# Altium integrated library Diode-THP_V2.IntLib: 130 symbols
Pins are listed as number, name and electrical type; pins without a type are passive.

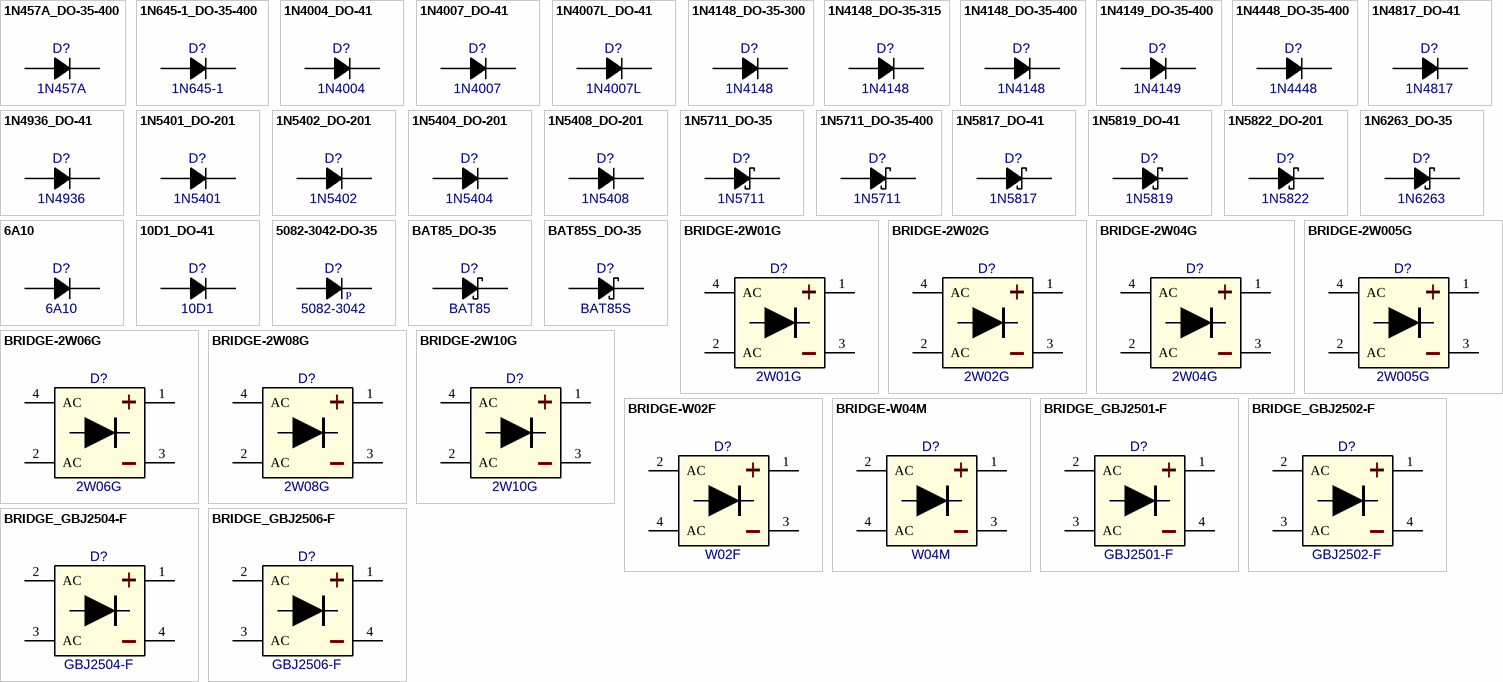
[diagram p0: symbols 1N457A_DO-35-400 to BRIDGE_GBJ2506-F]

## 1N457A_DO-35-400
designator D?, comment 1N457A
Diode Rectifier 200mA 70V; Manufacturer: Fairchild; Package: DO-35-400; EDM-PN: *; Text2: *; Text1: *; Value: 1N457A; Part Number: 1N457A
footprint DO-35-400 (DO-35 4.25x1.85mm)
pins: 1 C, 2 A

## 1N645-1_DO-35-400
designator D?, comment 1N645-1
Diode Rectifier 255mA 400V; Manufacturer: Microsemi; Package: DO-35-400; EDM-PN: *; Text2: *; Text1: *; Value: 1N645-1; Part Number: 1N645-1
footprint DO-35-400 (DO-35 4.25x1.85mm)
pins: 1 C, 2 A

## 1N4004_DO-41
designator D?, comment 1N4004
Diode Rectifier 1.0A; Manufacturer: Various; Package: DO-41; EDM-PN: *; Text2: *; Text1: *; Value: 1N4004; Part Number: 1N4004
footprint DO-41 (Diode DO-41 5.21x2.72mm)
pins: 1 C, 2 A

## 1N4007_DO-41
designator D?, comment 1N4007
Diode Rectifier 1000V 1.0A; Manufacturer: Various; EDM-PN: DIO16; Package: DO-41; Text2: *; Text1: *; Value: 1N4007; Part Number: 1N4007
footprint DO-41 (Diode DO-41 5.21x2.72mm)
pins: 1 C, 2 A

## 1N4007L_DO-41
designator D?, comment 1N4007L
Diode Rectifier 1000V 1.0A; Manufacturer: Various; Package: DO-41; EDM-PN: *; Text2: *; Text1: *; Value: 1N4007L; Part Number: 1N4007L
footprint DO-41 (Diode DO-41 5.21x2.72mm)
pins: 1 C, 2 A

## 1N4148_DO-35-300
designator D?, comment 1N4148
Diode Rectifier 100V 200mA; Manufacturer: Various; EDM-PN: DIO32; Package: DO-35-300; Text2: *; Text1: *; Value: 1N4148; Part Number: 1N4148
footprint DO-35-300 (DO-35 4.25x1.85mm)
pins: 1 C, 2 A

## 1N4148_DO-35-315
designator D?, comment 1N4148
Diode Rectifier 100V 200mA; Manufacturer: Various; EDM-PN: DIO32; Package: DO-35-315; Text2: *; Text1: *; Value: 1N4148; Part Number: 1N4148
footprint DO-35-315 (DO-35 4.25x1.85mm)
pins: 1 C, 2 A

## 1N4148_DO-35-400
designator D?, comment 1N4148
Diode Rectifier 100V 200mA; Manufacturer: Various; EDM-PN: DIO32; Package: DO-35-400; Text2: *; Text1: *; Value: 1N4148; Part Number: 1N4148
footprint DO-35-400 (DO-35 4.25x1.85mm)
pins: 1 C, 2 A

## 1N4149_DO-35-400
designator D?, comment 1N4149
Diode Rectifier 100V 500mA; Manufacturer: Various; Package: DO-35-400; EDM-PN: *; Text2: *; Text1: *; Value: 1N4149; Part Number: 1N4149
footprint DO-35-400 (DO-35 4.25x1.85mm)
pins: 1 C, 2 A

## 1N4448_DO-35-400
designator D?, comment 1N4448
Diode Rectifier 450mA 100V; Manufacturer: Various; Package: DO-35-400; EDM-PN: *; Text2: *; Text1: *; Value: 1N4448; Part Number: 1N4448
footprint DO-35-400 (DO-35 4.25x1.85mm)
pins: 1 C, 2 A

## 1N4817_DO-41
designator D?, comment 1N4817
Diode Silicon Rectifier 1.5A 100V; Manufacturer: IRF; Package: DO-41; EDM-PN: *; Text2: *; Text1: *; Value: 1N4817; Part Number: 1N4817
footprint DO-41 (Diode DO-41 5.21x2.72mm)
pins: 1 C, 2 A

## 1N4936_DO-41
designator D?, comment 1N4936
Diode Rectifier 1.0A 40V; Manufacturer: On Semi; Package: DO-41; EDM-PN: *; Text2: *; Text1: *; Value: 1N4936; Part Number: 1N4936
footprint DO-41 (Diode DO-41 5.21x2.72mm)
pins: 1 C, 2 A

## 1N5401_DO-201
designator D?, comment 1N5401
Diode Rectifier 3.0A 100V; Manufacturer: Various; Value: 1N5401-DO-201; Package: DO-201AD; EDM-PN: *; Text2: *; Text1: *; Part Number: 1N5401
footprint DO-201AD (DO-201AD 9.5x5.3mm)
pins: 1 C, 2 A

## 1N5402_DO-201
designator D?, comment 1N5402
Diode Rectifier 3.0A 200V; Manufacturer: Various; Value: 1N5402-DO-201; Package: DO-201AD; EDM-PN: *; Text2: *; Text1: *; Part Number: 1N5402
footprint DO-201AD (DO-201AD 9.5x5.3mm)
pins: 1 C, 2 A

## 1N5404_DO-201
designator D?, comment 1N5404
Diode Rectifier 3.0A 400V; Manufacturer: Various; Package: DO-201AD; EDM-PN: *; Text2: *; Text1: *; Value: 1N5404; Part Number: 1N5404
footprint DO-201AD (DO-201AD 9.5x5.3mm)
pins: 1 C, 2 A

## 1N5408_DO-201
designator D?, comment 1N5408
Diode Rectifier 3.0A 1000V; Manufacturer: Various; Value: 1N5408-DO-201; Package: DO-201AD; EDM-PN: *; Text2: *; Text1: *; Part Number: 1N5408
footprint DO-201AD (DO-201AD 9.5x5.3mm)
pins: 1 C, 2 A

## 1N5711_DO-35
designator D?, comment 1N5711
Diode Schottky RF 70V 15mA; Manufacturer: Various; Package: DO-35-300; EDM-PN: *; Text2: *; Text1: *; Value: 1N5711; Part Number: 1N5711
footprint DO-35-300 (DO-35 4.25x1.85mm)
pins: 1 C, 2 A

## 1N5711_DO-35-400
designator D?, comment 1N5711
Diode Schottky RF 70V 15mA; Manufacturer: Various; Package: DO-35-400; EDM-PN: *; Text2: *; Text1: *; Value: 1N5711; Part Number: 1N5711
footprint DO-35-400 (DO-35 4.25x1.85mm)
pins: 1 C, 2 A

## 1N5817_DO-41
designator D?, comment 1N5817
Diode Schottky 20V 1A; Manufacturer: Various; Package: DO-41; EDM-PN: *; Text2: *; Text1: *; Value: 1N5817; Part Number: 1N5817
footprint DO-41 (Diode DO-41 5.21x2.72mm)
pins: 1 C, 2 A

## 1N5819_DO-41
designator D?, comment 1N5819
Diode Schottky 40V 1A; Manufacturer: Various; Package: DO-41; EDM-PN: *; Text2: *; Text1: *; Value: 1N5819; Part Number: 1N5819
footprint DO-41 (Diode DO-41 5.21x2.72mm)
pins: 1 C, 2 A

## 1N5822_DO-201
designator D?, comment 1N5822
Diode Schottky 3.0A 40V; Manufacturer: Various; Package: DO-201AD; EDM-PN: *; Text2: *; Text1: *; Value: 1N5822; Part Number: 1N5822
footprint DO-201AD (DO-201AD 9.5x5.3mm)
pins: 1 C, 2 A

## 1N6263_DO-35
designator D?, comment 1N6263
Diode Schottky 15mA 60V; Manufacturer: Various; Package: DO-35-400; EDM-PN: *; Text2: *; Text1: *; Value: 1N6263; Part Number: 1N6263
footprint DO-35-400 (DO-35 4.25x1.85mm)
pins: 1 C, 2 A

## 6A10
designator D?
Diode Rectifier 6.0A 1000V; Manufacturer: FMS; Package: DIODE-THP-9x9; EDM-PN: *; Text2: *; Text1: *; Value: 6A10; Part Number: 6A10
footprint DIODE-THP-9x9 (Diode THP 9.0x9.0mm)
pins: 1 C, 2 A

## 10D1_DO-41
designator D?, comment 10D1
Diode Silicon Rectifier 1.5A 100V; Manufacturer: IRF; Package: DO-41; EDM-PN: *; Text2: *; Text1: *; Value: 10D1; Part Number: 10D1
footprint DO-41 (Diode DO-41 5.21x2.72mm)
pins: 1 C, 2 A

## 5082-3042-DO-35
designator D?, comment 5082-3042
Diode Glass PIN 70V 100mA; Manufacturer: Advanced Semiconductor; Package: DO-35-400; EDM-PN: *; Text2: *; Text1: *; Value: 5082-3042; Part Number: 5082-3042
footprint DO-35-400 (DO-35 4.25x1.85mm)
pins: 1 C, 2 A
text: P

## BAT85_DO-35
designator D?, comment BAT85
Diode Schottky 200mA 30V; Manufacturer: Nexperia; Package: DO-35-400; EDM-PN: *; Text2: *; Text1: *; Value: BAT85; Part Number: BAT85
footprint DO-35-400 (DO-35 4.25x1.85mm)
pins: 1 C, 2 A

## BAT85S_DO-35
designator D?, comment BAT85S
Diode Schottky 200mA 30V; Manufacturer: Vishay; Package: DO-35-400; EDM-PN: *; Text2: *; Text1: *; Value: BAT85S; Part Number: BAT85S
footprint DO-35-400 (DO-35 4.25x1.85mm)
pins: 1 C, 2 A

## BRIDGE-2W01G
designator D?  Part Number: 2W01G  (hidden comment: BRIDGE-2W01G)
Bridge Rectifier 2Amp 100V; Manufacturer: Vishay; Value: 2W01G; Package: 2W005G; EDM-PN: *; Text2: *; Text1: *
footprint 2W01 (2W01 9.9x9.9mm)
pins: 1 +, 2 AC, 3 -, 4 AC

## BRIDGE-2W02G
designator D?  Part Number: 2W02G  (hidden comment: BRIDGE-2W02G)
Bridge Rectifier 2Amp 200V; Manufacturer: Vishay; Value: 2W02G; Package: 2W005G; EDM-PN: *; Text2: *; Text1: *
footprint 2W02 (2W02 9.9x9.9mm)
pins: 1 +, 2 AC, 3 -, 4 AC

## BRIDGE-2W04G
designator D?  Part Number: 2W04G  (hidden comment: BRIDGE-2W04G)
Bridge Rectifier 2Amp 400V; Manufacturer: Vishay; Value: 2W04G; Package: 2W005G; EDM-PN: *; Text2: *; Text1: *
footprint 2W04 (2W04 9.9x9.9mm)
pins: 1 +, 2 AC, 3 -, 4 AC

## BRIDGE-2W005G
designator D?  Part Number: 2W005G  (hidden comment: BRIDGE-2W005G)
Bridge Rectifier 2Amp 50V; Manufacturer: Vishay; Value: 2W005G; Package: 2W005G; EDM-PN: *; Text2: *; Text1: *
footprint 2W005 (2W005 9.9x9.9mm)
pins: 1 +, 2 AC, 3 -, 4 AC

## BRIDGE-2W06G
designator D?  Part Number: 2W06G  (hidden comment: BRIDGE-2W06G)
Bridge Rectifier 2Amp 600V; Manufacturer: Vishay; Value: 2W06G; Package: 2W005G; EDM-PN: *; Text2: *; Text1: *
footprint 2W06 (2W06 9.9x9.9mm)
pins: 1 +, 2 AC, 3 -, 4 AC

## BRIDGE-2W08G
designator D?  Part Number: 2W08G  (hidden comment: BRIDGE-2W08G)
Bridge Rectifier 2Amp 800V; Manufacturer: Vishay; Value: 2W08G; Package: 2W005G; EDM-PN: *; Text2: *; Text1: *
footprint 2W08 (2W08 9.9x9.9mm)
pins: 1 +, 2 AC, 3 -, 4 AC

## BRIDGE-2W10G
designator D?  Part Number: 2W10G  (hidden comment: BRIDGE-2W10G)
Bridge Rectifier 2Amp 1000V; Manufacturer: Vishay; Value: 2W10G; Package: 2W005G; EDM-PN: *; Text2: *; Text1: *
footprint 2W10 (2W10 9.9x9.9mm)
pins: 1 +, 2 AC, 3 -, 4 AC

## BRIDGE-W02F
designator D?  Part Number: W02F  (hidden comment: BRIDGE-W02F)
Bridge Rectifier 1.5Amp 200V; Manufacturer: Fagor; Value: W02F; Package: W02X; EDM-PN: *; Text2: *; Text1: *
footprint W02X (W02X 9.8x8.5mm)
pins: 1 +, 2 AC, 3 -, 4 AC

## BRIDGE-W04M
designator D?  Part Number: W04M  (hidden comment: BRIDGE-W04M)
Bridge Rectifier 1.5Amp 400V; Manufacturer: Various; EDM-PN: BRI2; Value: W04M; Package: W0xM; Text2: *; Text1: *
footprint W0xM (W0xM 9.1x9.1mm)
pins: 1 +, 2 AC, 3 -, 4 AC

## BRIDGE_GBJ2501-F
designator D?, comment GBJ2501-F
Bridge Rectifier 25Amp 100V; Manufacturer: Diodes; Package: Bridge-GBJ25xx; EDM-PN: *; Text2: *; Text1: *; Value: GBJ2501-F; Part Number: GBJ2501-F
footprint Bridge-GBJ25xx (Bridge-GBJ25xx 30.3x4.87mm)
pins: 1, 2 AC, 3 AC, 4

## BRIDGE_GBJ2502-F
designator D?, comment GBJ2502-F
Bridge Rectifier 25Amp 200V; Manufacturer: Diodes; Package: Bridge-GBJ25xx; EDM-PN: *; Text2: *; Text1: *; Value: GBJ2502-F; Part Number: GBJ2502-F
footprint Bridge-GBJ25xx (Bridge-GBJ25xx 30.3x4.87mm)
pins: 1, 2 AC, 3 AC, 4

## BRIDGE_GBJ2504-F
designator D?, comment GBJ2504-F
Bridge Rectifier 25Amp 400V; Manufacturer: Diodes; Package: Bridge-GBJ25xx; EDM-PN: *; Text2: *; Text1: *; Value: GBJ2504-F; Part Number: GBJ2504-F
footprint Bridge-GBJ25xx (Bridge-GBJ25xx 30.3x4.87mm)
pins: 1, 2 AC, 3 AC, 4

## BRIDGE_GBJ2506-F
designator D?, comment GBJ2506-F
Bridge Rectifier 25Amp 600V; Manufacturer: Diodes; Package: Bridge-GBJ25xx; EDM-PN: *; Text2: *; Text1: *; Value: GBJ2506-F; Part Number: GBJ2506-F
footprint Bridge-GBJ25xx (Bridge-GBJ25xx 30.3x4.87mm)
pins: 1, 2 AC, 3 AC, 4

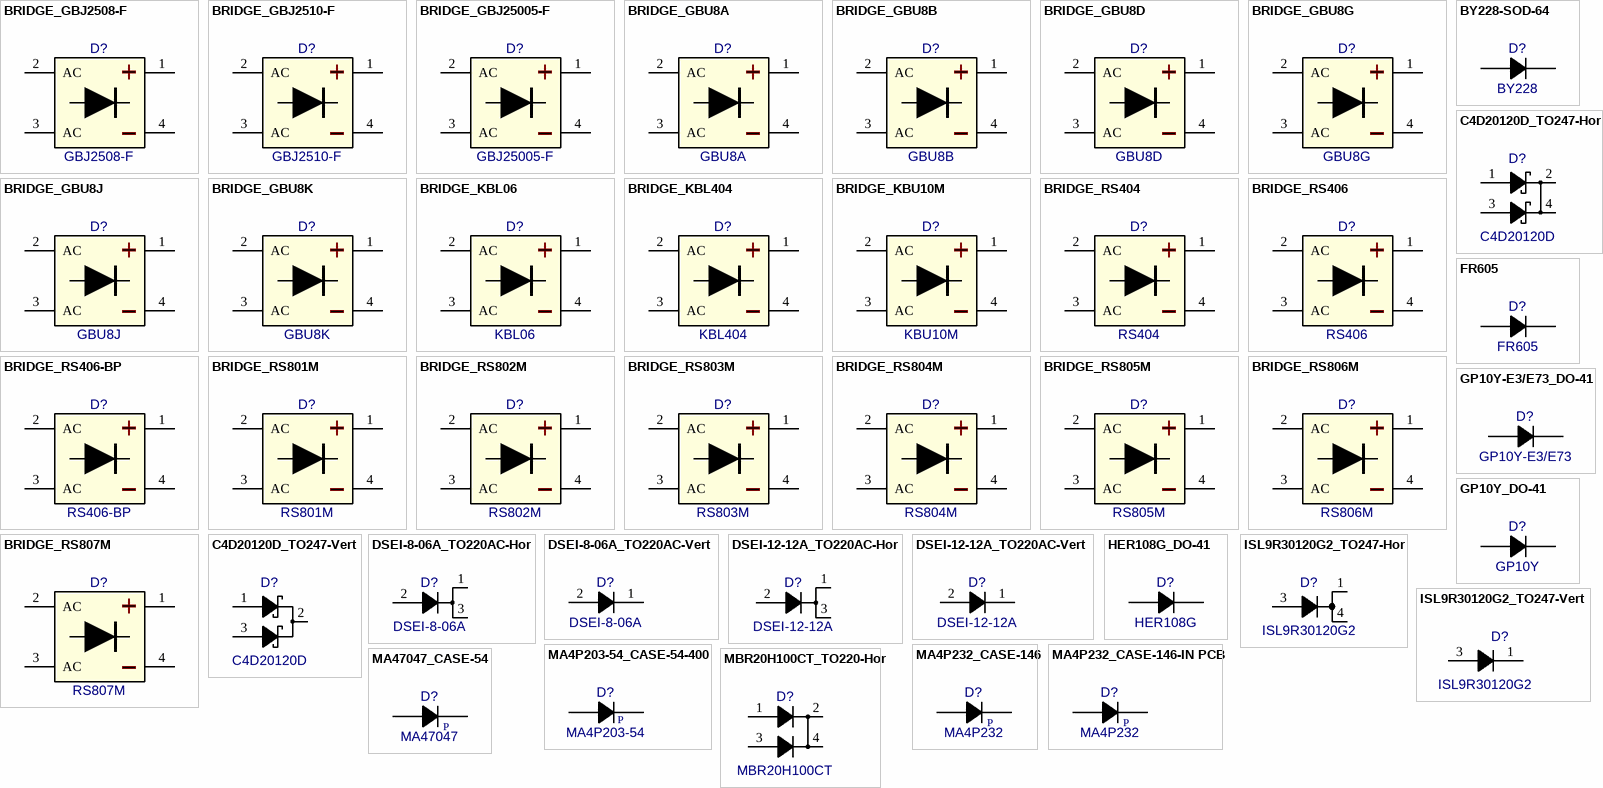
[diagram p1: symbols BRIDGE_GBJ2508-F to MBR20H100CT_TO220-Hor]

## BRIDGE_GBJ2508-F
designator D?, comment GBJ2508-F
Bridge Rectifier 25Amp 800V; Manufacturer: Diodes; Package: Bridge-GBJ25xx; EDM-PN: *; Text2: *; Text1: *; Value: GBJ2508-F; Part Number: GBJ2508-F
footprint Bridge-GBJ25xx (Bridge-GBJ25xx 30.3x4.87mm)
pins: 1, 2 AC, 3 AC, 4

## BRIDGE_GBJ2510-F
designator D?, comment GBJ2510-F
Bridge Rectifier 25Amp 1000V; Manufacturer: Diodes; Package: Bridge-GBJ25xx; EDM-PN: *; Text2: *; Text1: *; Value: GBJ2510-F; Part Number: GBJ2510-F
footprint Bridge-GBJ25xx (Bridge-GBJ25xx 30.3x4.87mm)
pins: 1, 2 AC, 3 AC, 4

## BRIDGE_GBJ25005-F
designator D?, comment GBJ25005-F
Bridge Rectifier 25Amp 50V; Manufacturer: Diodes; Package: Bridge-GBJ25xx; EDM-PN: *; Text2: *; Text1: *; Value: GBJ25005-F; Part Number: GBJ25005-F
footprint Bridge-GBJ25xx (Bridge-GBJ25xx 30.3x4.87mm)
pins: 1, 2 AC, 3 AC, 4

## BRIDGE_GBU8A
designator D?, comment GBU8A
Bridge Rectifier 8Amp 50V; Manufacturer: WTE; Package: Bridge-GBU; EDM-PN: *; Text2: *; Text1: *; Value: GBU8A; Part Number: GBU8A
footprint Bridge-GBU (Bridge-GBU 22.3x3.56mm)
pins: 1, 2 AC, 3 AC, 4

## BRIDGE_GBU8B
designator D?, comment GBU8B
Bridge Rectifier 8Amp 100V; Manufacturer: WTE; Package: Bridge-GBU; EDM-PN: *; Text2: *; Text1: *; Value: GBU8B; Part Number: GBU8B
footprint Bridge-GBU (Bridge-GBU 22.3x3.56mm)
pins: 1, 2 AC, 3 AC, 4

## BRIDGE_GBU8D
designator D?, comment GBU8D
Bridge Rectifier 8Amp 200V; Manufacturer: WTE; Package: Bridge-GBU; EDM-PN: *; Text2: *; Text1: *; Value: GBU8D; Part Number: GBU8D
footprint Bridge-GBU (Bridge-GBU 22.3x3.56mm)
pins: 1, 2 AC, 3 AC, 4

## BRIDGE_GBU8G
designator D?, comment GBU8G
Bridge Rectifier 8Amp 400V; Manufacturer: WTE; Package: Bridge-GBU; EDM-PN: *; Text2: *; Text1: *; Value: GBU8G; Part Number: GBU8G
footprint Bridge-GBU (Bridge-GBU 22.3x3.56mm)
pins: 1, 2 AC, 3 AC, 4

## BRIDGE_GBU8J
designator D?, comment GBU8J
Bridge Rectifier 8Amp 600V; Manufacturer: WTE; Package: Bridge-GBU; EDM-PN: *; Text2: *; Text1: *; Value: GBU8J; Part Number: GBU8J
footprint Bridge-GBU (Bridge-GBU 22.3x3.56mm)
pins: 1, 2 AC, 3 AC, 4

## BRIDGE_GBU8K
designator D?, comment GBU8K
Bridge Rectifier 8Amp 800V; Manufacturer: WTE; Package: Bridge-GBU; EDM-PN: *; Text2: *; Text1: *; Value: GBU8K; Part Number: GBU8K
footprint Bridge-GBU (Bridge-GBU 22.3x3.56mm)
pins: 1, 2 AC, 3 AC, 4

## BRIDGE_KBL06
designator D?, comment KBL06
Bridge Rectifier 4Amp 600V; Manufacturer: DC COMPONENTS; Package: Bridge-KBL06; EDM-PN: *; Text2: *; Text1: *; Value: KBL06; Part Number: KBL06
footprint Bridge-KBL06
pins: 1, 2 AC, 3 AC, 4

## BRIDGE_KBL404
designator D?, comment KBL404
Bridge Rectifier 4Amp 400V; Manufacturer: LRC; Package: Bridge-KBL04; EDM-PN: *; Text2: *; Text1: *; Value: KBL404; Part Number: KBL404
footprint Bridge-KBL04 (Bridge-KBL04 19.5x6.5mm)
pins: 1, 2 AC, 3 AC, 4

## BRIDGE_KBU10M
designator D?, comment KBU10M
Bridge Rectifier 10Amp 1000V; Manufacturer: DC COMPONENTS; Value: BRIDGE_KBU10M_THP; Package: KBU10M_THP; EDM-PN: *; Text2: *; Text1: *; Part Number: KBU10M
footprint KBU10M_THP (Bridge Rectifier, DC Components, Straight THP)
pins: 1, 2 AC, 3 AC, 4

## BRIDGE_RS404
designator D?, comment RS404
Bridge Rectifier 4Amp 400V; Manufacturer: LRC; Package: Bridge-KBL04; EDM-PN: *; Text2: *; Text1: *; Value: RS404; Part Number: RS404
footprint Bridge-KBL04 (Bridge-KBL04 19.5x6.5mm)
pins: 1, 2 AC, 3 AC, 4

## BRIDGE_RS406
designator D?, comment RS406
Bridge Rectifier 4Amp 600V; Manufacturer: LRC; Package: Bridge-KBL04; EDM-PN: *; Text2: *; Text1: *; Value: RS406; Part Number: RS406
footprint Bridge-KBL04 (Bridge-KBL04 19.5x6.5mm)
pins: 1, 2 AC, 3 AC, 4

## BRIDGE_RS406-BP
designator D?, comment RS406-BP
Bridge Rectifier 4Amp 600V; Manufacturer: DC COMPONENTS; Package: Bridge-KBL06; EDM-PN: *; Text2: *; Text1: *; Value: RS406-BP; Part Number: RS406-BP
footprint Bridge-KBL06
pins: 1, 2 AC, 3 AC, 4

## BRIDGE_RS801M
designator D?, comment RS801M
Bridge Rectifier 8Amp 50V; Manufacturer: Various; Package: Bridge-RS80x-M; EDM-PN: *; Text2: *; Text1: *; Value: RS801M; Part Number: RS801M
footprint Bridge-RS80x-M (Bridge-RS80xM 23.7x3.7mm)
pins: 1, 2 AC, 3 AC, 4

## BRIDGE_RS802M
designator D?, comment RS802M
Bridge Rectifier 8Amp 100V; Manufacturer: Various; Package: Bridge-RS80x-M; EDM-PN: *; Text2: *; Text1: *; Value: RS802M; Part Number: RS802M
footprint Bridge-RS80x-M (Bridge-RS80xM 23.7x3.7mm)
pins: 1, 2 AC, 3 AC, 4

## BRIDGE_RS803M
designator D?, comment RS803M
Bridge Rectifier 8Amp 200V; Manufacturer: Various; Package: Bridge-RS80x-M; EDM-PN: *; Text2: *; Text1: *; Value: RS803M; Part Number: RS803M
footprint Bridge-RS80x-M (Bridge-RS80xM 23.7x3.7mm)
pins: 1, 2 AC, 3 AC, 4

## BRIDGE_RS804M
designator D?, comment RS804M
Bridge Rectifier 8Amp 400V; Manufacturer: Various; Package: Bridge-RS80x-M; EDM-PN: *; Text2: *; Text1: *; Value: RS804M; Part Number: RS804M
footprint Bridge-RS80x-M (Bridge-RS80xM 23.7x3.7mm)
pins: 1, 2 AC, 3 AC, 4

## BRIDGE_RS805M
designator D?, comment RS805M
Bridge Rectifier 8Amp 600V; Manufacturer: Various; Package: Bridge-RS80x-M; EDM-PN: *; Text2: *; Text1: *; Value: RS805M; Part Number: RS805M
footprint Bridge-RS80x-M (Bridge-RS80xM 23.7x3.7mm)
pins: 1, 2 AC, 3 AC, 4

## BRIDGE_RS806M
designator D?, comment RS806M
Bridge Rectifier 8Amp 800V; Manufacturer: Various; Package: Bridge-RS80x-M; EDM-PN: *; Text2: *; Text1: *; Value: RS806M; Part Number: RS806M
footprint Bridge-RS80x-M (Bridge-RS80xM 23.7x3.7mm)
pins: 1, 2 AC, 3 AC, 4

## BRIDGE_RS807M
designator D?, comment RS807M
Bridge Rectifier 8Amp 1000V; Manufacturer: Various; Package: Bridge-RS80x-M; EDM-PN: *; Text2: *; Text1: *; Value: RS807M; Part Number: RS807M
footprint Bridge-RS80x-M (Bridge-RS80xM 23.7x3.7mm)
pins: 1, 2 AC, 3 AC, 4

## BY228-SOD-64
designator D?  Part Number: BY228  (hidden comment: BY228-SOD-64)
Diode Avalanche Glass 3.0A 1500V; Manufacturer: Vishay; Value: BY228; Package: SOD-64; EDM-PN: *; Text2: *; Text1: *
footprint SOD-64 (SOD-64 4.0x4.3mm)
pins: 1 C, 2 A

## C4D20120D_TO247-Hor
designator D?, comment C4D20120D
Diode Schottky Rectifier 1200V 33A; Manufacturer: Cree; Package: TO-247H-D; EDM-PN: *; Text2: *; Text1: *; Value: C4D20120D; Part Number: C4D20120D
footprint TO-247-H-D (TO-247 15.8x20.3mm)
pins: 1 A1, 2 C, 3 A2, 4 C

## C4D20120D_TO247-Vert
designator D?, comment C4D20120D
Diode Schottky Rectifier 1200V 33A; Manufacturer: Cree; Package: TO-247V-D; EDM-PN: *; Text2: *; Text1: *; Value: C4D20120D; Part Number: C4D20120D
footprint TO-247-V-D (TO-247 15.8x5.3mm)
pins: 1 A1, 2 C, 3 A2

## DSEI-8-06A_TO220AC-Hor
designator D?, comment DSEI-8-06A
Diode Fast Recovery (FRED); Manufacturer: IXYS; Package: TO-220CA-H; EDM-PN: *; Text2: *; Text1: *; Value: DSEI-8-06A; Part Number: DSEI-8-06A
footprint TO-220AC-H-D (TO-220AC 10.2x19.0mm)
pins: 1 C, 2 A, 3 C

## DSEI-8-06A_TO220AC-Vert
designator D?, comment DSEI-8-06A
Diode Fast Recovery (FRED); Manufacturer: IXYS; Package: TO-220CA-V; EDM-PN: *; Text2: *; Text1: *; Value: DSEI-8-06A; Part Number: DSEI-8-06A
footprint TO-220AC-V-D (TO-220AC 10.2x4.8mm)
pins: 1 C, 2 A

## DSEI-12-12A_TO220AC-Hor
designator D?, comment DSEI-12-12A
Diode Fast Recovery (FRED); Manufacturer: IXYS; Package: TO-220CA-H; EDM-PN: *; Text2: *; Text1: *; Value: DSEI-12-12A; Part Number: DSEI-12-12A
footprint TO-220AC-H-D (TO-220AC 10.2x19.0mm)
pins: 1 C, 2 A, 3 C

## DSEI-12-12A_TO220AC-Vert
designator D?, comment DSEI-12-12A
Diode Fast Recovery (FRED); Manufacturer: IXYS; Package: TO-220CA-V; EDM-PN: *; Text2: *; Text1: *; Value: DSEI-12-12A; Part Number: DSEI-12-12A
footprint TO-220AC-V-D (TO-220AC 10.2x4.8mm)
pins: 1 C, 2 A

## FR605
designator D?
Diode Rectifier 6.0A 600V; Manufacturer: Rectron; Package: DIODE-THP-9x9; EDM-PN: *; Text2: *; Text1: *; Value: FR605; Part Number: FR605
footprint DIODE-THP-9x9 (Diode THP 9.0x9.0mm)
pins: 1 C, 2 A

## GP10Y-E3/E73_DO-41
designator D?, comment GP10Y-E3/E73
Diode Rectifier 1.0A 1600V; Manufacturer: Vishay; Package: DO-41; EDM-PN: *; Text2: *; Text1: *; Value: GP10Y-E3/E73; Part Number: GP10Y-E3/E73
footprint DO-41 (Diode DO-41 5.21x2.72mm)
pins: 1 C, 2 A

## GP10Y_DO-41
designator D?, comment GP10Y
Diode Rectifier 1.0A 1600V; Manufacturer: Vishay; Package: DO-41; EDM-PN: *; Text2: *; Text1: *; Value: GP10Y; Part Number: GP10Y
footprint DO-41 (Diode DO-41 5.21x2.72mm)
pins: 1 C, 2 A

## HER108G_DO-41
designator D?, comment HER108G
Diode High Efficient Rectifier 1000V 1.0A; Manufacturer: MCC/TSC; Package: DO-41; EDM-PN: *; Text2: *; Text1: *; Value: HER108G; Part Number: HER108G
footprint DO-41 (Diode DO-41 5.21x2.72mm)
pins: 1 C, 2 A

## ISL9R30120G2_TO247-Hor
designator D?, comment ISL9R30120G2
Diode Stealth 1.2kV 30A; Manufacturer: On Semi; Package: TO-247-H-D-2L; EDM-PN: *; Text2: *; Text1: *; Value: ISL9R30120G2; Part Number: ISL9R30120G2
footprint TO-247-H-D-2L (TO-247 15.8x20.3mm)
pins: 1 A1, 3 A2, 4 C

## ISL9R30120G2_TO247-Vert
designator D?, comment ISL9R30120G2
Diode Stealth 1.2kV 30A; Manufacturer: On Semi; Package: TO-247-V-D-2L; EDM-PN: *; Text2: *; Text1: *; Value: ISL9R30120G2; Part Number: ISL9R30120G2
footprint TO-247-V-D-2L (TO-247 15.8x5.3mm)
pins: 1 A1, 3 A2

## MA4P203-54_CASE-54-400
designator D?, comment MA4P203-54
Diode Glass PIN; Manufacturer: Macom; Package: CASE-54-400; EDM-PN: *; Text2: *; Text1: *; Value: MA4P203-54; Part Number: MA4P203-54
footprint CASE-54-400 (Case 54 3.9x1.8mm)
pins: 1 C, 2 A
text: P

## MA4P232_CASE-146
designator D?, comment MA4P232
Diode Glass PIN; Manufacturer: ?; Package: Case-146; EDM-PN: *; Text2: *; Text1: *; Value: MA4P232; Part Number: MA4P232
footprint Case-146 (Case-146 5.59x2.41mm)
pins: 1 C, 2 A
text: P

## MA4P232_CASE-146-IN PCB
designator D?, comment MA4P232
Diode Glass PIN; Manufacturer: ?; Package: Case-146; EDM-PN: *; Text2: *; Text1: *; Value: MA4P232; Part Number: MA4P232
footprint Case-146-IN PCB (Case-146 5.59x2.41mm)
pins: 1 C, 2 A
text: P

## MA47047_CASE-54
designator D?, comment MA47047
Diode Glass PIN; Manufacturer: Macom; Package: Case-54; EDM-PN: *; Text2: *; Text1: *; Value: MA47047; Part Number: MA47047
footprint Case-54 (Case-54 3.94x1.8mm)
pins: 1 C, 2 A
text: P

## MBR20H100CT_TO220-Hor
designator D?, comment MBR20H100CT
Diode Power Rectifier 100V 2x10A; Manufacturer: On Semi; Package: TO-220H-D; EDM-PN: *; Text2: *; Text1: *; Value: MBR20H100CT; Part Number: MBR20H100CT
footprint TO-220H-D (TO-220 Horizontal Mount)
pins: 1 A1, 2 C, 3 A2, 4 C

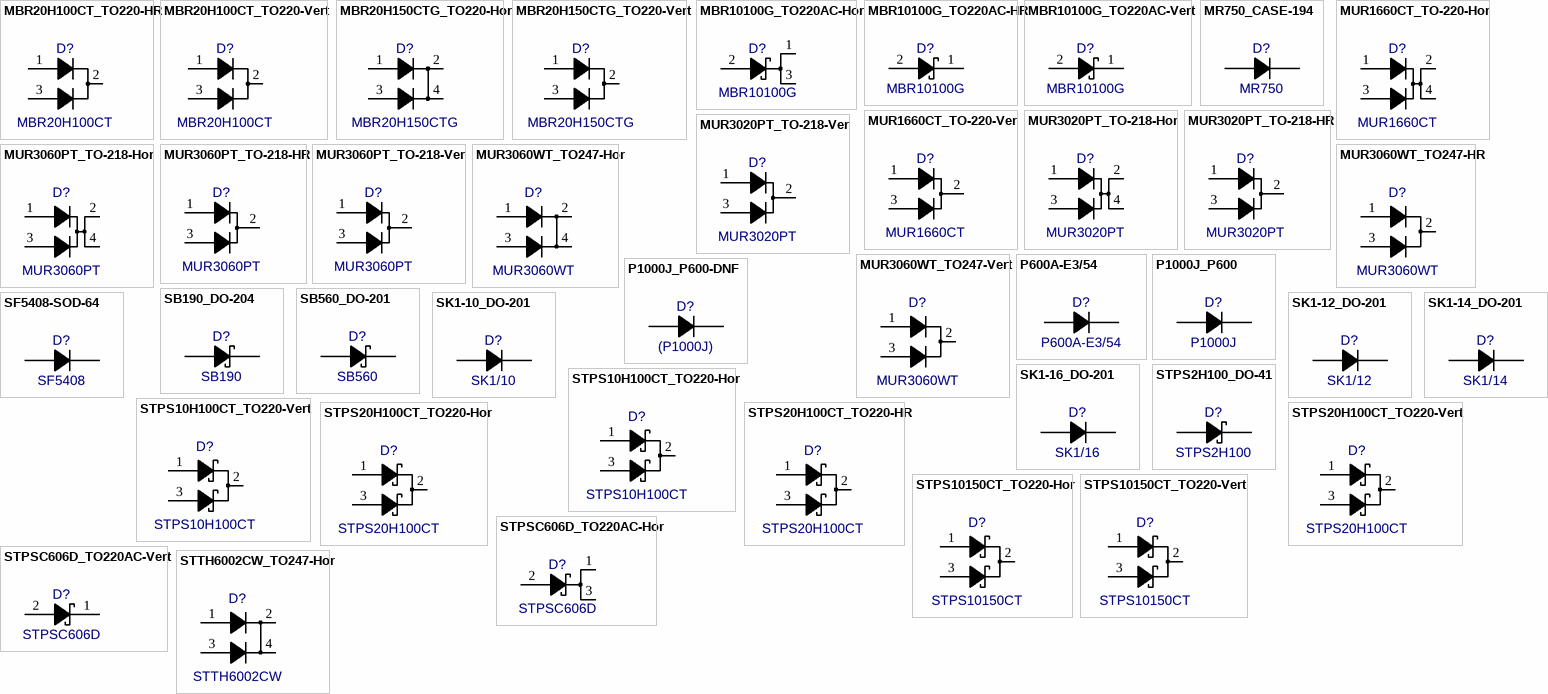
[diagram p2: symbols MBR20H100CT_TO220-HR to STTH6002CW_TO247-Hor]

## MBR20H100CT_TO220-HR
designator D?, comment MBR20H100CT
Diode Power Rectifier 100V 2x10A; Manufacturer: On Semi; Package: TO-220H-D-RM-8; EDM-PN: *; Text2: *; Text1: *; Value: MBR20H100CT; Part Number: MBR20H100CT
footprint TO-220H-D-RM-8 (TO-220 Reverse Mount Horizontal Mount)
pins: 1 A1, 2 C, 3 A2

## MBR20H100CT_TO220-Vert
designator D?, comment MBR20H100CT
Diode Power Rectifier 100V 2x10A; Manufacturer: On Semi; Package: TO-220V-D; EDM-PN: *; Text2: *; Text1: *; Value: MBR20H100CT; Part Number: MBR20H100CT
footprint TO-220V-D (TO-220 Vertical Mount)
pins: 1 A1, 2 C, 3 A2

## MBR20H150CTG_TO220-Hor
designator D?, comment MBR20H150CTG
Diode Power Rectifier 150V 2x10A; Manufacturer: On Semi; Package: TO-220H-D; EDM-PN: *; Text2: *; Text1: *; Value: MBR20H150CTG; Part Number: MBR20H150CTG
footprint TO-220H-D (TO-220 Horizontal Mount)
pins: 1 A1, 2 C, 3 A2, 4 C

## MBR20H150CTG_TO220-Vert
designator D?, comment MBR20H150CTG
Diode Power Rectifier 150V 2x10A; Manufacturer: On Semi; Package: TO-220V-D; EDM-PN: *; Text2: *; Text1: *; Value: MBR20H150CTG; Part Number: MBR20H150CTG
footprint TO-220V-D (TO-220 Vertical Mount)
pins: 1 A1, 2 C, 3 A2

## MBR10100G_TO220AC-Hor
designator D?, comment MBR10100G
Diode Schottky 10A 100V; Manufacturer: On Semi; Value: MBR10100G-TO-220AC; Package: TO-220CA-H; EDM-PN: *; Text2: *; Text1: *; Part Number: MBR10100G
footprint TO-220AC-H-D (TO-220AC 10.2x19.0mm)
pins: 1 C, 2 A, 3 C

## MBR10100G_TO220AC-HR
designator D?, comment Part Number: MBR10100G  (hidden comment: MBR10100G-REV)
Diode Schottky 10A 100V (Reverse Mount); Manufacturer: On Semi; Value: MBR10100G-TO-220AC; Package: TO-220CA-H-RM-8; EDM-PN: *; Text2: *; Text1: *
footprint TO-220AC-H-D-RM-8 (TO-220AC Reverse Mount10.2x19.0mm)
pins: 1 C, 2 A

## MBR10100G_TO220AC-Vert
designator D?, comment MBR10100G
Diode Schottky 10A 100V; Manufacturer: On Semi; Value: MBR10100G-TO-220AC; Package: TO-220CA-V; EDM-PN: *; Text2: *; Text1: *; Part Number: MBR10100G
footprint TO-220AC-V-D (TO-220AC 10.2x4.8mm)
pins: 1 C, 2 A

## MR750_CASE-194
designator D?, comment MR750
Diode Rectifier 400A 50V; Manufacturer: On Semi; Reutech PN: 5961-RE-0068; Package: Case194-04; EDM-PN: *; Text2: *; Text1: *; Value: MR750; Part Number: MR750
footprint Case194-04 (Case194-04 THP 6.3x8.7mm)
pins: 1 C, 2 A

## MUR1660CT_TO-220-Hor
designator D?, comment MUR1660CT
Diode Rectifier 16A 600V; Manufacturer: On Semi; Package: TO-220H-D; EDM-PN: *; Text2: *; Text1: *; Value: MUR1660CT; Part Number: MUR1660CT
footprint TO-220H-D (TO-220 Horizontal Mount)
pins: 1 A, 2 C, 3 A, 4 C

## MUR1660CT_TO-220-Ver
designator D?, comment MUR1660CT
Diode Rectifier 16A 600V; Manufacturer: On Semi; Package: TO-218-V-D; EDM-PN: *; Text2: *; Text1: *; Value: MUR1660CT; Part Number: MUR1660CT
footprint TO-220V-D (TO-220 Vertical Mount)
pins: 1 A, 2 C, 3 A

## MUR3020PT_TO-218-Hor
designator D?, comment MUR3020PT
Diode Recifier 30A 200V; Manufacturer: On Semi; Value: MUR3020PT_TO-218; Package: TO-218-H-D; EDM-PN: *; Text2: *; Text1: *; Part Number: MUR3020PT
footprint TO-218-H-D (TO-218 15.2x20.35mm)
pins: 1 A, 2 C, 3 A, 4 C

## MUR3020PT_TO-218-HR
designator D?, comment Part Number: MUR3020PT  (hidden comment: MUR3020PT-Rev)
Diode Rectifier 30A 200V (Reverse Mount); Manufacturer: On Semi; Value: MUR3020PT_TO-218; Package: TO-218-V-D-RM-8; EDM-PN: *; Text2: *; Text1: *
footprint TO-218-H-D-RM-8 (TO-218 Reverse Mount 15.2x20.35mm)
pins: 1 A, 2 C, 3 A

## MUR3020PT_TO-218-Ver
designator D?, comment MUR3020PT
Diode Rectifier 30A 200V; Manufacturer: On Semi; Value: MUR3020PT_TO-218; Package: TO-218-V-D; EDM-PN: *; Text2: *; Text1: *; Part Number: MUR3020PT
footprint TO-218-V-D (TO-218 15.2x4.9mm)
pins: 1 A, 2 C, 3 A

## MUR3060PT_TO-218-Hor
designator D?, comment MUR3060PT
Diode Rectifier 30A 600V; Manufacturer: On Semi; Value: MUR3060PT_TO-218; Package: TO-218-H-D; EDM-PN: *; Text2: *; Text1: *; Part Number: MUR3060PT
footprint TO-218-H-D (TO-218 15.2x20.35mm)
pins: 1 A, 2 C, 3 A, 4 C

## MUR3060PT_TO-218-HR
designator D?, comment Part Number: MUR3060PT  (hidden comment: MUR3060PT-Rev)
Diode Rectifier 30A 600V (Reverse Mount); Manufacturer: On Semi; Value: MUR3060PT_TO-218; Package: TO-218-V-D-RM-8; EDM-PN: *; Text2: *; Text1: *
footprint TO-218-H-D-RM-8 (TO-218 Reverse Mount 15.2x20.35mm)
pins: 1 A, 2 C, 3 A

## MUR3060PT_TO-218-Ver
designator D?, comment MUR3060PT
Diode Rectifier 30A 600V; Manufacturer: On Semi; Value: MUR3060PT_TO-218; Package: TO-218-V-D; EDM-PN: *; Text2: *; Text1: *; Part Number: MUR3060PT
footprint TO-218-V-D (TO-218 15.2x4.9mm)
pins: 1 A, 2 C, 3 A

## MUR3060WT_TO247-Hor
designator D?, comment MUR3060WT
Diode Power Rectifier 600V 2x15A; Manufacturer: On Semi; Package: TO-247H-D; EDM-PN: *; Text2: *; Text1: *; Value: MUR3060WT; Part Number: MUR3060WT
footprint TO-247-H-D (TO-247 15.8x20.3mm)
pins: 1 A1, 2 C, 3 A2, 4 C

## MUR3060WT_TO247-HR
designator D?, comment MUR3060WT
Diode Power Rectifier 600V 2x15A; Manufacturer: On Semi; Package: TO-247H-DR; EDM-PN: *; Text2: *; Text1: *; Value: MUR3060WT; Part Number: MUR3060WT
footprint TO-247-H-DR (TO-247 15.8x20.3mm)
pins: 1 A1, 2 C, 3 A2

## MUR3060WT_TO247-Vert
designator D?, comment MUR3060WT
Diode Power Rectifier 600V 2x15A; Manufacturer: On Semi; Package: TO-247V-D; EDM-PN: *; Text2: *; Text1: *; Value: MUR3060WT; Part Number: MUR3060WT
footprint TO-247-V-D (TO-247 15.8x5.3mm)
pins: 1 A1, 2 C, 3 A2

## P600A-E3/54
designator D?
Diode Rectifier 6A 50V; Manufacturer: Vishay; Reutech PN: 5961-RE-0068; Package: P600; EDM-PN: *; Text2: *; Text1: *; Value: P600A-E3/54; Part Number: P600A-E3/54
footprint P600 (Diode THP 9.0x9.0mm)
pins: 1 C, 2 A

## P1000J_P600
designator D?, comment P1000J
Diode Rectifier 10A 600V; Manufacturer: Diotec; Package: P600; EDM-PN: *; Text2: *; Text1: *; Value: P1000J; Part Number: P1000J
footprint P600 (Diode THP 9.0x9.0mm)
pins: 1 C, 2 A

## P1000J_P600-DNF
designator D?, comment value (P1000J)  (hidden comment: P1000J-DNF)
Diode Rectifier 10A 600V - Do not Fit; Manufacturer: Diotec; Part Number: DNF - P1000J; Package: P600; EDM-PN: *; Text2: *; Text1: *
footprint P600 (Diode THP 9.0x9.0mm)
pins: 1 C, 2 A

## SB190_DO-204
designator D?, comment SB190
Diode Schottky Rectifier 1.0A 90V; Manufacturer: Diotec; Package: DO-204AC; EDM-PN: *; Text2: *; Text1: *; Value: SB190; Part Number: SB190
footprint DO-204AC (DO-204AC 6.3x3.0mm)
pins: 1 C, 2 A

## SB560_DO-201
designator D?, comment SB560
Diode Schottky Rectifier 5.0A 60V; Manufacturer: Various; Value: SB560-DO-201; Package: DO-201AD; EDM-PN: *; Text2: *; Text1: *; Part Number: SB560
footprint DO-201AD (DO-201AD 9.5x5.3mm)
pins: 1 C, 2 A

## SF5408-SOD-64
designator D?, comment SF5408
Diode Avalanche 3.0A 1000V; Manufacturer: Vishay; Package: SOD-64; EDM-PN: *; Text2: *; Text1: *; Value: SF5408; Part Number: SF5408
footprint SOD-64 (SOD-64 4.0x4.3mm)
pins: 1 C, 2 A

## SK1-10_DO-201
designator D?, comment Part Number: SK1/10  (hidden comment: SK1-10)
Diode Rectifier 1.2A 1000V; Manufacturer: Semikron; Value: SK1/10; Package: DO-201AD; EDM-PN: *; Text2: *; Text1: *
footprint DO-201AD (DO-201AD 9.5x5.3mm)
pins: 1 C, 2 A

## SK1-12_DO-201
designator D?, comment Part Number: SK1/12  (hidden comment: SK1-12)
Diode Rectifier 1.2A 1200V; Manufacturer: Semikron; Value: SK1/12; Package: DO-201AD; EDM-PN: *; Text2: *; Text1: *
footprint DO-201AD (DO-201AD 9.5x5.3mm)
pins: 1 C, 2 A

## SK1-14_DO-201
designator D?, comment Part Number: SK1/14  (hidden comment: SK1-14)
Diode Rectifier 1.2A 1400V; Manufacturer: Semikron; Value: SK1/14; Package: DO-201AD; EDM-PN: *; Text2: *; Text1: *
footprint DO-201AD (DO-201AD 9.5x5.3mm)
pins: 1 C, 2 A

## SK1-16_DO-201
designator D?, comment Part Number: SK1/16  (hidden comment: SK1-16)
Diode Rectifier 1.2A 1600V; Manufacturer: Semikron; Value: SK1/16; Package: DO-201AD; EDM-PN: *; Text2: *; Text1: *
footprint DO-201AD (DO-201AD 9.5x5.3mm)
pins: 1 C, 2 A

## STPS2H100_DO-41
designator D?, comment STPS2H100
Diode Schottky Rectifier 2A 100V; Manufacturer: ST; Package: DO-41; EDM-PN: *; Text2: *; Text1: *; Value: STPS2H100; Part Number: STPS2H100
footprint DO-41 (Diode DO-41 5.21x2.72mm)
pins: 1 C, 2 A

## STPS10H100CT_TO220-Hor
designator D?, comment STPS10H100CT
Diode Schottky 100V 2x5A; Manufacturer: ST; Package: TO-220H-D; EDM-PN: *; Text2: *; Text1: *; Value: STPS10H100CT; Part Number: STPS10H100CT
footprint TO-220H-D (TO-220 Horizontal Mount)
pins: 1 A1, 2 C, 3 A2

## STPS10H100CT_TO220-Vert
designator D?, comment STPS10H100CT
Diode Schottky 100V 2x5A; Manufacturer: ST; Package: TO-220V-D; EDM-PN: *; Text2: *; Text1: *; Value: STPS10H100CT; Part Number: STPS10H100CT
footprint TO-220V-D (TO-220 Vertical Mount)
pins: 1 A1, 2 C, 3 A2

## STPS20H100CT_TO220-Hor
designator D?, comment STPS20H100CT
Diode Schottky 100V 2x10A; Manufacturer: ST; Package: TO-220H-D; EDM-PN: *; Text2: *; Text1: *; Value: STPS20H100CT; Part Number: STPS20H100CT
footprint TO-220H-D (TO-220 Horizontal Mount)
pins: 1 A1, 2 C, 3 A2

## STPS20H100CT_TO220-HR
designator D?, comment STPS20H100CT
Diode Schottky 100V 2x10A; Manufacturer: ST; Package: TO-220H-D-RM-8; EDM-PN: *; Text2: *; Text1: *; Value: STPS20H100CT; Part Number: STPS20H100CT
footprint TO-220H-D-RM-8 (TO-220 Reverse Mount Horizontal Mount)
pins: 1 A1, 2 C, 3 A2

## STPS20H100CT_TO220-Vert
designator D?, comment STPS20H100CT
Diode Schottky 100V 2x10A; Manufacturer: ST; Package: TO-220V-D; EDM-PN: *; Text2: *; Text1: *; Value: STPS20H100CT; Part Number: STPS20H100CT
footprint TO-220V-D (TO-220 Vertical Mount)
pins: 1 A1, 2 C, 3 A2

## STPS10150CT_TO220-Hor
designator D?, comment STPS10150CT
Diode Schottky 150V 2x5A; Manufacturer: ST; Package: TO-220H-D; EDM-PN: *; Text2: *; Text1: *; Value: STPS10150CT; Part Number: STPS10150CT
footprint TO-220H-D (TO-220 Horizontal Mount)
pins: 1 A1, 2 C, 3 A2

## STPS10150CT_TO220-Vert
designator D?, comment STPS10150CT
Diode Schottky 150V 2x5A; Manufacturer: ST; Package: TO-220V-D; EDM-PN: *; Text2: *; Text1: *; Value: STPS10150CT; Part Number: STPS10150CT
footprint TO-220V-D (TO-220 Vertical Mount)
pins: 1 A1, 2 C, 3 A2

## STPSC606D_TO220AC-Hor
designator D?, comment STPSC606D
Diode Schottky 6.0A 600V; Manufacturer: ST; Value: STPSC606D-TO-220AC; Package: TO-220CA-H; EDM-PN: *; Text2: *; Text1: *; Part Number: STPSC606D
footprint TO-220AC-H-D (TO-220AC 10.2x19.0mm)
pins: 1 C, 2 A, 3 C

## STPSC606D_TO220AC-Vert
designator D?, comment STPSC606D
Diode Schottky 6.0A 600V; Manufacturer: ST; Value: STPSC606D-TO-220AC; Package: TO-220CA-V; EDM-PN: *; Text2: *; Text1: *; Part Number: STPSC606D
footprint TO-220AC-V-D (TO-220AC 10.2x4.8mm)
pins: 1 C, 2 A

## STTH6002CW_TO247-Hor
designator D?, comment STTH6002CW
Diode Ultrafast 200V 2x30A; Manufacturer: ST; Reutech PN: 5961-RE-0071; Package: TO-247H-D; EDM-PN: *; Text2: *; Text1: *; Value: STTH6002CW; Part Number: STTH6002CW
footprint TO-247-H-D (TO-247 15.8x20.3mm)
pins: 1 A1, 2 C, 3 A2, 4 C

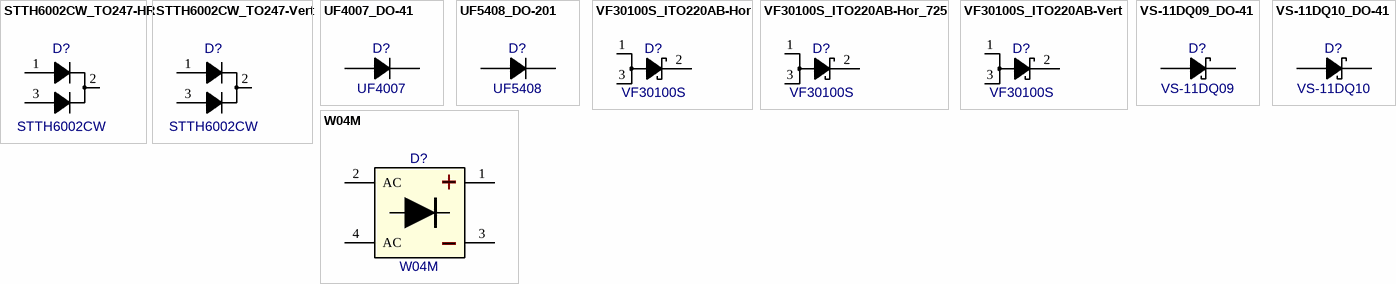
[diagram p3: symbols STTH6002CW_TO247-HR to W04M]

## STTH6002CW_TO247-HR
designator D?, comment STTH6002CW
Diode Ultrafast 200V 2x30A; Manufacturer: ST; Reutech PN: 5961-RE-0071; Package: TO-247H-DR; EDM-PN: *; Text2: *; Text1: *; Value: STTH6002CW; Part Number: STTH6002CW
footprint TO-247-H-DR (TO-247 15.8x20.3mm)
pins: 1 A1, 2 C, 3 A2

## STTH6002CW_TO247-Vert
designator D?, comment STTH6002CW
Diode Ultrafast 200V 2x30A; Manufacturer: ST; Reutech PN: 5961-RE-0071; Package: TO-247V-D; EDM-PN: *; Text2: *; Text1: *; Value: STTH6002CW; Part Number: STTH6002CW
footprint TO-247-V-D (TO-247 15.8x5.3mm)
pins: 1 A1, 2 C, 3 A2

## UF4007_DO-41
designator D?, comment UF4007
Diode Rectifier 1.0A; Manufacturer: Fairchild; Value: UF4007-DO-41; Package: DO-41; EDM-PN: *; Text2: *; Text1: *; Part Number: UF4007
footprint DO-41 (Diode DO-41 5.21x2.72mm)
pins: 1 C, 2 A

## UF5408_DO-201
designator D?, comment UF5408
Diode Rectifier Ultrafast 3.0A 1000V; Manufacturer: Various; Package: DO-201AD; EDM-PN: *; Text2: *; Text1: *; Value: UF5408; Part Number: UF5408
footprint DO-201AD (DO-201AD 9.5x5.3mm)
pins: 1 C, 2 A

## VF30100S_ITO220AB-Hor
designator D?, comment VF30100S
Diode Schottky 30A 100V; Manufacturer: Vishay; Value: VF30100S-ITO-220AB; Reutech PN: 5961-ST-0039; Package: ITO-220CB-H; EDM-PN: *; Text2: *; Text1: *; Part Number: VF30100S
footprint ITO-220AB-H (ITO-220AB 10.2x19.0mm)
pins: 1 C, 2 A, 3 C

## VF30100S_ITO220AB-Hor_725
designator D?, comment VF30100S
Diode Schottky 30A 100V; Manufacturer: Vishay; Value: VF30100S-ITO-220AB; Reutech PN: 5961-ST-0039; Package: ITO-220CB-H-725; EDM-PN: *; Text2: *; Text1: *; Part Number: VF30100S
footprint ITO-220AB-H-725 (ITO-220AB 10.2x19.0mm)
pins: 1 C, 2 A, 3 C

## VF30100S_ITO220AB-Vert
designator D?, comment VF30100S
Diode Schottky 30A 100V; Manufacturer: Vishay; Value: VF30100S-ITO-220AB; Reutech PN: 5961-ST-0039; Package: ITO-220CB-H; EDM-PN: *; Text2: *; Text1: *; Part Number: VF30100S
footprint ITO-220AB-V (ITO-220AB 10.2x4.8mm)
pins: 1 C, 2 A, 3 C

## VS-11DQ09_DO-41
designator D?, comment VS-11DQ09
Diode Schottky Rectifier 1.1A 90V; Manufacturer: Vishay; Package: DO-41; EDM-PN: *; Text2: *; Text1: *; Value: VS-11DQ09; Part Number: VS-11DQ09
footprint DO-41 (Diode DO-41 5.21x2.72mm)
pins: 1 C, 2 A

## VS-11DQ10_DO-41
designator D?, comment VS-11DQ10
Diode Schottky Rectifier 1.1A 100V; Manufacturer: Vishay; Package: DO-41; EDM-PN: *; Text2: *; Text1: *; Value: VS-11DQ10; Part Number: VS-11DQ10
footprint DO-41 (Diode DO-41 5.21x2.72mm)
pins: 1 C, 2 A

## W04M
designator D?
Bridge Rectifier 1.5Amp 400V; Manufacturer: Various; Package: W0xM; EDM-PN: *; Text2: *; Text1: *; Value: W04M; Part Number: W04M
footprint W0xM (W0xM 9.1x9.1mm)
pins: 1 +, 2 AC, 3 -, 4 AC